# Altium footprint library Light Sensor Node.PcbLib: 23 footprints (part 1 of 2)
Each footprint in its own frame and in the unit in brackets; x right, y up, seen from the top. Pads: shape width x height; smd on the part's side, far side on the other; paste and mask are expansions set on the pad; w line width, h text height; cw(c..) or ccw(c..) is an arc to the next point about the centre after c.
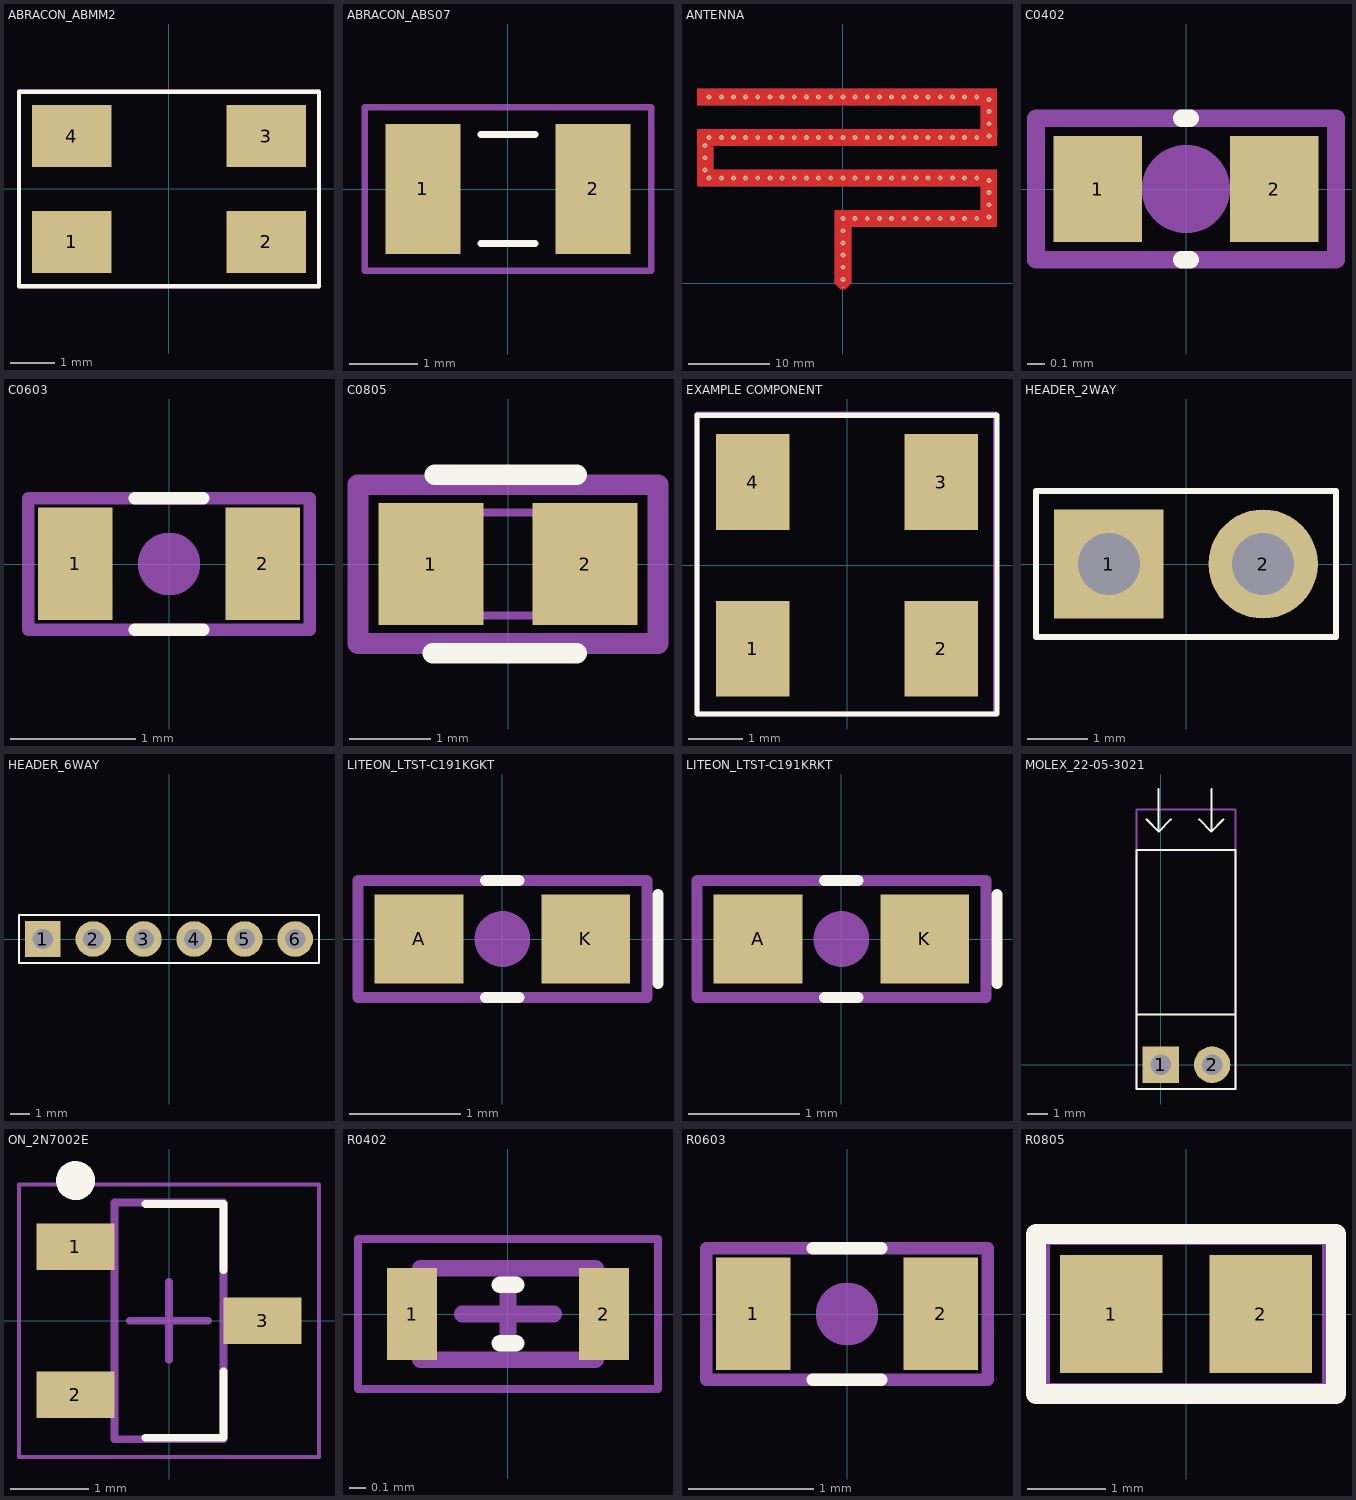
[diagram p0: the footprints below, top view; thin cyan lines are the x and y axes]

## ABRACON_ABMM2 [mm]
pads (4):
  rect 1.8x1.4 smd: 1(-2.2,-1.2) 2(2.2,-1.2) 3(2.2,1.2) 4(-2.2,1.2)
Top Overlay:
  lines w0.1: -3.4,-2.2 -3.4,2.2 3.4,2.2 3.4,-2.2 -3.4,-2.2
Mechanical 15:
  lines w0.1: -3.4,-2.2 3.4,-2.2 3.4,2.2 -3.4,2.2 -3.4,-2.2
Mechanical 17:
  text ".Designator" at -1.913,1.55 h0.4
Mechanical 19:
  text ".Comment" at -1.862,1.195 h0.4

## ABRACON_ABS07 [mm]
pads (2):
  rect 1.1x1.9 smd: 1(-1.25,0) 2(1.25,0)
Top Overlay:
  lines w0.1: -0.4,-0.8 0.4,-0.8 ; -0.4,0.8 0.4,0.8
Mechanical 15:
  lines w0.1: -2.1,-1.2 -2.1,1.2 2.1,1.2 2.1,-1.2 -2.1,-1.2
Mechanical 17:
  text ".Designator" at -1.063,0.15 h0.4
Mechanical 19:
  text ".Comment" at -1.012,-0.205 h0.4

## ANTENNA [mm]
pads (1):
  rect 0.1x0.1 smd: 1(0,-0.5)
via 0,6.5 diameter 0.6 hole 0.3
via 0,8 diameter 0.6 hole 0.3
via 0,5 diameter 0.6 hole 0.3
via 0,3.5 diameter 0.6 hole 0.3
via 0,2 diameter 0.6 hole 0.3
via 0,0.5 diameter 0.6 hole 0.3
via 1.5,8 diameter 0.6 hole 0.3
via 4.5,8 diameter 0.6 hole 0.3
via 3,8 diameter 0.6 hole 0.3
via 9,8 diameter 0.6 hole 0.3
via 10.5,8 diameter 0.6 hole 0.3
via 7.5,8 diameter 0.6 hole 0.3
via 6,8 diameter 0.6 hole 0.3
via 15,8 diameter 0.6 hole 0.3
via 16.5,8 diameter 0.6 hole 0.3
via 13.5,8 diameter 0.6 hole 0.3
via 12,8 diameter 0.6 hole 0.3
via 18,8.2 diameter 0.6 hole 0.3
via 18,9.7 diameter 0.6 hole 0.3
via 18,12.7 diameter 0.6 hole 0.3
via 18,11.2 diameter 0.6 hole 0.3
via 16.5,13 diameter 0.6 hole 0.3
via 12,13 diameter 0.6 hole 0.3
via 13.5,13 diameter 0.6 hole 0.3
via 15,13 diameter 0.6 hole 0.3
via 6,13 diameter 0.6 hole 0.3
via 7.5,13 diameter 0.6 hole 0.3
via 10.5,13 diameter 0.6 hole 0.3
via 9,13 diameter 0.6 hole 0.3
via 3,13 diameter 0.6 hole 0.3
via 4.5,13 diameter 0.6 hole 0.3
via 1.5,13 diameter 0.6 hole 0.3
via 0,13 diameter 0.6 hole 0.3
via -4.5,13 diameter 0.6 hole 0.3
via -3,13 diameter 0.6 hole 0.3
via -1.5,13 diameter 0.6 hole 0.3
via -10.5,13 diameter 0.6 hole 0.3
via -9,13 diameter 0.6 hole 0.3
via -6,13 diameter 0.6 hole 0.3
via -7.5,13 diameter 0.6 hole 0.3
via -13.5,13 diameter 0.6 hole 0.3
via -12,13 diameter 0.6 hole 0.3
via -15,13 diameter 0.6 hole 0.3
via -16.5,13 diameter 0.6 hole 0.3
via -16.5,18 diameter 0.6 hole 0.3
via -15,18 diameter 0.6 hole 0.3
via -12,18 diameter 0.6 hole 0.3
via -13.5,18 diameter 0.6 hole 0.3
via -7.5,18 diameter 0.6 hole 0.3
via -6,18 diameter 0.6 hole 0.3
via -9,18 diameter 0.6 hole 0.3
via -10.5,18 diameter 0.6 hole 0.3
via -1.5,18 diameter 0.6 hole 0.3
via -3,18 diameter 0.6 hole 0.3
via -4.5,18 diameter 0.6 hole 0.3
via 0,18 diameter 0.6 hole 0.3
via 1.5,18 diameter 0.6 hole 0.3
via 4.5,18 diameter 0.6 hole 0.3
via 3,18 diameter 0.6 hole 0.3
via 9,18 diameter 0.6 hole 0.3
via 10.5,18 diameter 0.6 hole 0.3
via 7.5,18 diameter 0.6 hole 0.3
via 6,18 diameter 0.6 hole 0.3
via 15,18 diameter 0.6 hole 0.3
via 13.5,18 diameter 0.6 hole 0.3
via 12,18 diameter 0.6 hole 0.3
via 16.5,18 diameter 0.6 hole 0.3
via -16.5,23 diameter 0.6 hole 0.3
via -15,23 diameter 0.6 hole 0.3
via -12,23 diameter 0.6 hole 0.3
via -13.5,23 diameter 0.6 hole 0.3
via -7.5,23 diameter 0.6 hole 0.3
via -6,23 diameter 0.6 hole 0.3
via -9,23 diameter 0.6 hole 0.3
via -10.5,23 diameter 0.6 hole 0.3
via -1.5,23 diameter 0.6 hole 0.3
via -3,23 diameter 0.6 hole 0.3
via -4.5,23 diameter 0.6 hole 0.3
via 0,23 diameter 0.6 hole 0.3
via 1.5,23 diameter 0.6 hole 0.3
via 4.5,23 diameter 0.6 hole 0.3
via 3,23 diameter 0.6 hole 0.3
via 9,23 diameter 0.6 hole 0.3
via 10.5,23 diameter 0.6 hole 0.3
via 7.5,23 diameter 0.6 hole 0.3
via 6,23 diameter 0.6 hole 0.3
via 15,23 diameter 0.6 hole 0.3
via 13.5,23 diameter 0.6 hole 0.3
via 12,23 diameter 0.6 hole 0.3
via 16.5,23 diameter 0.6 hole 0.3
via 18,21.2 diameter 0.6 hole 0.3
via 18,22.7 diameter 0.6 hole 0.3
via 18,19.7 diameter 0.6 hole 0.3
via 18,18.2 diameter 0.6 hole 0.3
via -17,14 diameter 0.6 hole 0.3
via -17,15.5 diameter 0.6 hole 0.3
via -17,17 diameter 0.6 hole 0.3
Top Layer:
  region: -1,0 -0.3,-0.7 0.3,-0.7 1,0
  region: -18,24 19,24 19,22 -18,22
  region: 17,22 19,22 19,19 17,19
  region: -18,19 19,19 19,17 -18,17
  region: -18,17 -16,17 -16,14 -18,14
  region: -18,14 19,14 19,12 -18,12
  region: 17,12 19,12 19,9 17,9
  region: 1,9 19,9 19,7 1,7
  region: -1,9 1,9 1,0 -1,0
Bottom Layer:
  region: -1,0 -0.3,-0.7 0.3,-0.7 1,0
  region: -1,9 1,9 1,0 -1,0
  region: 1,9 19,9 19,7 1,7
  region: 17,12 19,12 19,9 17,9
  region: -18,14 19,14 19,12 -18,12
  region: -18,17 -16,17 -16,14 -18,14
  region: -18,19 19,19 19,17 -18,17
  region: 17,22 19,22 19,19 17,19
  region: -18,24 19,24 19,22 -18,22

## C0402 [mm] "Chip Resistor; Body 1.1 x 0.5 mm (LxW typ)"
height 2.54
pads (2):
  rect 0.5x0.6 smd: 1(-0.5,0) 2(0.5,0)
Top Overlay:
  lines w0.1: -0.025,-0.4 0.025,-0.4 ; -0.025,0.4 0.025,0.4
Mechanical 15:
  lines w0.1: -0.11,0 0.11,0 ; 0,-0.11 0,0.11 ; -0.85,-0.4 -0.85,0.4 0.85,0.4 0.85,-0.4 -0.85,-0.4
Mechanical 17:
  text ".Designator" at -0.7,0.1 h0.4
Mechanical 19:
  text ".Comment" at -0.7,-0.3 h0.4
Mechanical 21:
  circle w0.4: c0,0 r0.05
3D body "User Library-0402 SMD Capacitor.step": height 0.2, standoff 0, extent -0.5,-0.3 0.5,0.3

## C0603 [mm] "Chip Capacitor; Body 1.6 x 0.8 mm (LxW typ)"
height 0.8
pads (2):
  rect 0.6x0.9 smd: 1(-0.75,0) 2(0.75,0)
Top Overlay:
  lines w0.1: -0.275,-0.525 0.275,-0.525 ; -0.275,0.525 0.275,0.525
Mechanical 15:
  lines w0.1: -1.125,-0.525 1.125,-0.525 1.125,0.525 -1.125,0.525 -1.125,-0.525
Mechanical 17:
  text ".Designator" at -1.016,0.127 h0.5
Mechanical 19:
  text ".Comment" at -1.016,-0.381 h0.5
Mechanical 21:
  circle w0.4: c0,0 r0.05
3D body "SW3dPS-0603 SMD Capacitor.STEP": height 0.3, standoff 0, extent -0.8,-0.4 0.8,0.4

## C0805 [mm] "Chip Resistor; Body 2.0 x 1.3 mm (LxW typ)"
height 1.25
pads (2):
  rect 1.3x1.5 smd: 1(-0.95,0) 2(0.95,0)
Top Overlay:
  lines w0.254: -0.925,-1.1 0.85,-1.1 ; -0.9,1.1 0.85,1.1
Mechanical 11:
  lines w0.1: -1.05,-0.637 1,-0.637 1,0.637 -1.05,0.637 -1.05,-0.637
Mechanical 15:
  lines w0.254: -1.85,-0.981 1.85,-0.981 1.85,0.975 -1.85,0.975 -1.85,-0.981
Mechanical 17:
  text ".Designator" at -1.625,0.05 h0.4
Mechanical 19:
  text ".Comment" at -1.55,-0.575 h0.4
3D body "SW3dPS-0805 SMD Capacitor.STEP": height 0.78, standoff 0, extent -1,-0.625 1,0.625

## EXAMPLE COMPONENT [mm] "Add component description"
height 1.1
pads (4):
  rect 1.35x1.75 smd: 1(-1.725,-1.525) 2(1.725,-1.525) 3(1.725,1.525) 4(-1.725,1.525)
Top Overlay:
  lines w0.1: -2.743,-2.718 -2.743,2.743 2.743,2.743 2.743,-2.718 -2.743,-2.718
Mechanical 15:
  lines w0.1: -2.743,-2.718 -2.743,2.769 2.718,2.769 2.718,-2.718 -2.743,-2.718
Mechanical 17:
  text ".Designator" at -2.388,0.025 h0.4
Mechanical 19:
  text ".Comment" at -2.337,-0.33 h0.4

## HEADER_2WAY [mm] "Wire-To-Board Connector, KK 7478 Series, Through Hole, Header, Right angle, 2 contacts, 2.54 mm"
height 6.35
pads (2):
  rect 1.8x1.8 hole 1.02: 1(-1.27,0)
  round 1.8 hole 1.02: 2(1.27,0)
Top Overlay:
  lines w0.1: -2.47,-1.2 -2.47,1.2 2.47,1.2 2.47,-1.2 -2.47,-1.2
Mechanical 15:
  lines w0.1: -2.47,-1.2 -2.47,1.2 2.47,1.2 2.47,-1.2 -2.47,-1.2
Mechanical 17:
  text ".Designator" at -1.77,4.2 h0.4
Mechanical 19:
  text ".Comment" at -1.77,3.5 h0.4

## HEADER_6WAY [mm] "Wire-To-Board Connector, KK 7478 Series, Through Hole, Header, Right angle, 2 contacts, 2.54 mm"
height 6.35
pads (6):
  rect 1.8x1.8 hole 1.02: 1(-6.35,0)
  round 1.8 hole 1.02: 2(-3.81,0) 3(-1.27,0) 4(1.27,0) 5(3.81,0) 6(6.35,0)
Top Overlay:
  lines w0.1: -7.55,-1.2 -7.55,1.2 7.55,1.2 7.55,-1.2 -7.55,-1.2
Mechanical 15:
  lines w0.1: -7.55,-1.2 -7.55,1.2 7.55,1.2 7.55,-1.2 -7.55,-1.2
Mechanical 17:
  text ".Designator" at -6.85,4.2 h0.4
Mechanical 19:
  text ".Comment" at -6.85,3.5 h0.4

## LITEON_LTST-C191KGKT [mm]
pads (2):
  rect 0.8x0.8 smd: A(-0.75,0) K(0.75,0)
Top Overlay:
  lines w0.1: -0.15,-0.525 0.15,-0.525 ; -0.15,0.525 0.15,0.525 ; 1.4,-0.4 1.4,0.4
Mechanical 15:
  lines w0.1: -1.3,-0.525 1.3,-0.525 1.3,0.525 -1.3,0.525 -1.3,-0.525
Mechanical 17:
  text ".Designator" at -1.016,0.127 h0.5
Mechanical 19:
  text ".Comment" at -1.016,-0.381 h0.5
Mechanical 21:
  circle w0.4: c0,0 r0.05
3D body "SW3dPS-0603 SMD Capacitor.STEP": height 0.3, standoff 0, extent -0.8,-0.4 0.8,0.4

## LITEON_LTST-C191KRKT [mm]
pads (2):
  rect 0.8x0.8 smd: A(-0.75,0) K(0.75,0)
Top Overlay:
  lines w0.1: -0.15,-0.525 0.15,-0.525 ; -0.15,0.525 0.15,0.525 ; 1.4,-0.4 1.4,0.4
Mechanical 15:
  lines w0.1: -1.3,-0.525 1.3,-0.525 1.3,0.525 -1.3,0.525 -1.3,-0.525
Mechanical 17:
  text ".Designator" at -1.016,0.127 h0.5
Mechanical 19:
  text ".Comment" at -1.016,-0.381 h0.5
Mechanical 21:
  circle w0.4: c0,0 r0.05
3D body "SW3dPS-0603 SMD Capacitor.STEP": height 0.3, standoff 0, extent -0.8,-0.4 0.8,0.4

## MOLEX_22-05-3021 [mm] "Wire-To-Board Connector, KK 7478 Series, Through Hole, Header, Right angle, 2 contacts, 2.54 mm"
height 6.35
pads (2):
  rect 1.8x1.8 hole 1.02: 1(0,0)
  round 1.8 hole 1.02: 2(2.54,0)
Top Overlay:
  lines w0.1: -1.2,2.465 3.7,2.465 ; -0.7,12.1 -0.1,11.5 ; -0.1,13.6 -0.1,11.5 ; 0.5,12.1 -0.1,11.5 ; 1.9,12.1 2.5,11.5 ; 2.5,13.6 2.5,11.5 ; 3.1,12.1 2.5,11.5 ; -1.2,-1.2 3.7,-1.2 3.7,10.6 -1.2,10.6 -1.2,-1.2
Mechanical 15:
  lines w0.1: -1.2,-1.2 3.7,-1.2 3.7,12.6 -1.2,12.6 -1.2,-1.2
Mechanical 17:
  text ".Designator" at -0.5,4.2 h0.4
Mechanical 19:
  text ".Comment" at -0.5,3.5 h0.4
3D body "022053021.stp": height 6.38, standoff -3.56, extent -1.164,-0.335 3.764,12.593

## ON_2N7002E [mm]
height 1.11
pads (3):
  rect 1x0.6 smd: 1(-1.2,0.95) 2(-1.2,-0.95) 3(1.2,0)
Top Overlay:
  circle w0.25: c-1.2,1.8 r0.125
  lines w0.1: -0.3,-1.5 0.7,-1.5 0.7,-0.65 ; -0.3,1.5 0.7,1.5 0.7,0.65
Mechanical 13:
  lines w0.1: -0.7,-1.52 0.7,-1.52 0.7,1.52 -0.7,1.52 -0.7,-1.52
Mechanical 15:
  lines w0.05: -1.925,-1.75 1.925,-1.75 1.925,1.75 -1.925,1.75 -1.925,-1.75
  lines w0.1: -0.5,0 0.5,0 ; 0,-0.5 0,0.5
3D body "ON_2N7002E.step": height 1.11, standoff 0, extent -1.32,-1.52 1.32,1.52

## R0402 [mm] "Chip Resistor, 2-Leads, Body 1.00x0.50mm, IPC Medium Density"
height 0.4
pads (2):
  rect 0.3x0.55 smd: 1(-0.575,0) 2(0.575,0)
Top Overlay:
  lines w0.1: -0.05,-0.175 0.05,-0.175 ; -0.05,0.175 0.05,0.175
Mechanical 13:
  lines w0.1: -0.525,-0.275 -0.525,0.275 0.525,0.275 0.525,-0.275 -0.525,-0.275
Mechanical 15:
  lines w0.05: -0.9,-0.45 -0.9,0.45 0.9,0.45 0.9,-0.45 -0.9,-0.45
  lines w0.1: -0.275,0 0.275,0 ; 0,-0.275 0,0.275
Mechanical 17:
  text ".Designator" at -0.762,0.127 h0.4
Mechanical 19:
  text ".Comment" at -0.762,-0.254 h0.4
3D body: height 0.4, standoff 0, extent -0.495,-0.275 0.495,0.275
3D body: height 0.4, standoff 0, extent -0.525,-0.275 -0.495,0.275
3D body: height 0.4, standoff 0, extent 0.495,-0.275 0.525,0.275

## R0603 [mm] "Chip Resistor; Body 1.6 x 0.8 mm (LxW typ)"
height 0.8
pads (2):
  rect 0.6x0.9 smd: 1(-0.75,0) 2(0.75,0)
Top Overlay:
  lines w0.1: -0.275,-0.525 0.275,-0.525 ; -0.275,0.525 0.275,0.525
Mechanical 15:
  lines w0.1: -1.125,-0.525 1.125,-0.525 1.125,0.525 -1.125,0.525 -1.125,-0.525
Mechanical 17:
  text ".Designator" at -0.889,0.127 h0.5
Mechanical 19:
  text ".Comment" at -0.889,-0.381 h0.5
Mechanical 21:
  circle w0.4: c0,0 r0.05
3D body "SW3dPS-0603 SMD Capacitor.STEP": height 0.3, standoff 0, extent -0.8,-0.4 0.8,0.4

## R0805 [mm] "Chip Resistor; Body 2.0 x 1.3 mm (LxW typ)"
height 0.5
pads (2):
  rect 1.3x1.5 smd: 1(-0.95,0) 2(0.95,0)
Top Overlay:
  lines w0.254: -1.905,-1.016 1.905,-1.016 1.905,1.016 -1.905,1.016 -1.905,-1.016
Mechanical 15:
  lines w0.1: -1.775,-0.925 1.775,-0.925 1.775,0.925 -1.775,0.925 -1.775,-0.925
Mechanical 17:
  text ".Designator" at -1.5,0.225 h0.4
Mechanical 19:
  text ".Comment" at -0.508,-0.762 h0.4
3D body "User Library-0805 SMD Resistor.step": height 0.78, standoff 0, extent -1,-0.6 1,0.65